# EAGLE library part MC3362 (library fm_radio)
Low-Power Narrow Band FM Receiver
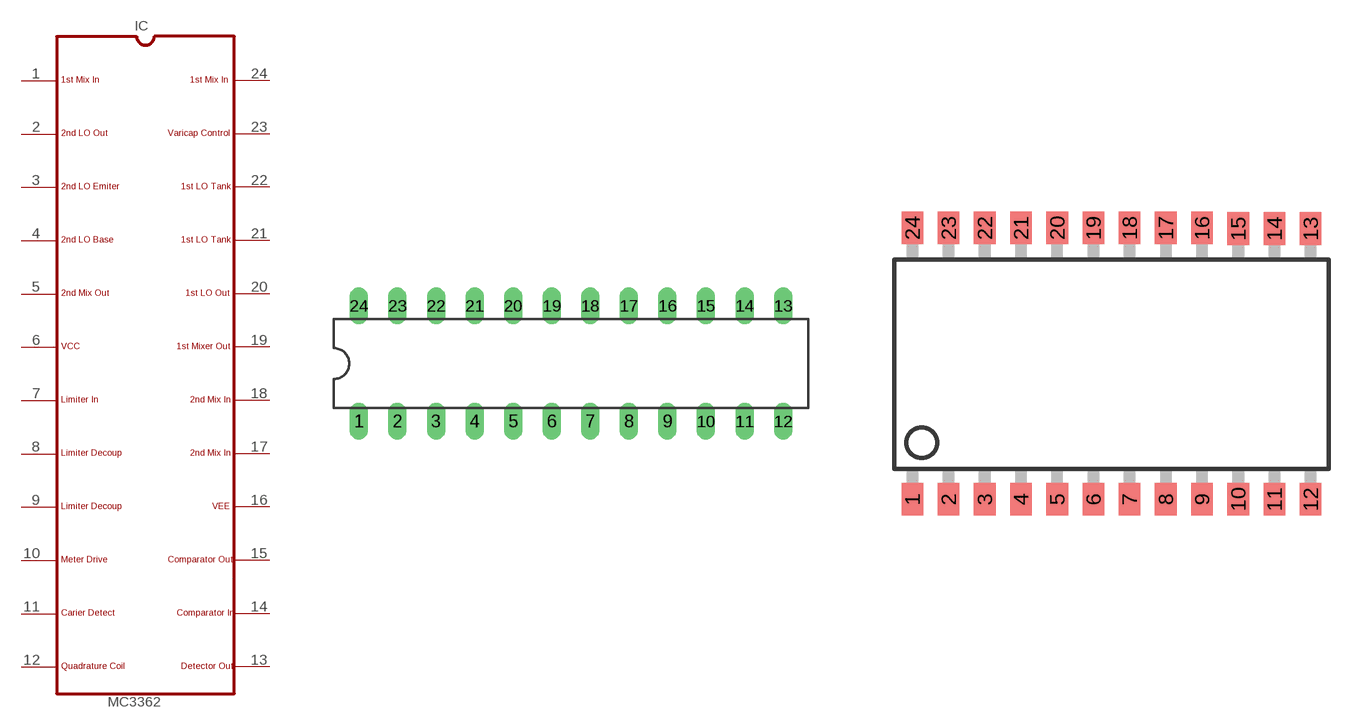
[diagram p0: symbol with the pads of DIL24; footprints DIL24, SO24L]

Designator prefix IC

## MC3362P  [DIL24]
1  1  pas
2  2  pas
3  3  pas
4  4  pas
5  5  pas
6  6  pwr
7  7  pas
8  8  pas
9  9  pas
10  10  pas
11  11  pas
12  12  pas
13  13  pas
14  14  pas
15  15  pas
16  16  pwr
17  17  pas
18  18  pas
19  19  pas
20  20  pas
21  21  pas
22  22  pas
23  23  pas
24  24  pas

## MC3362DW  [SO24L]
1  1  pas
2  2  pas
3  3  pas
4  4  pas
5  5  pas
6  6  pwr
7  7  pas
8  8  pas
9  9  pas
10  10  pas
11  21  pas
12  22  pas
13  24  pas
14  23  pas
15  11  pas
16  12  pas
17  13  pas
18  14  pas
19  15  pas
20  16  pwr
21  17  pas
22  18  pas
23  19  pas
24  20  pas

## Footprint DIL24 (pad centres in mm)
drill 0.7 long: 1 -13.97,-3.81; 2 -11.43,-3.81; 3 -8.89,-3.81; 4 -6.35,-3.81; 5 -3.81,-3.81; 6 -1.27,-3.81; 7 1.27,-3.81; 8 3.81,-3.81; 9 6.35,-3.81; 10 8.89,-3.81; 11 11.43,-3.81; 12 13.97,-3.81; 13 13.97,3.81; 14 11.43,3.81; 15 8.89,3.81; 16 6.35,3.81; 17 3.81,3.81; 18 1.27,3.81; 19 -1.27,3.81; 20 -3.81,3.81; 21 -6.35,3.81; 22 -8.89,3.81; 23 -11.43,3.81; 24 -13.97,3.81

## Footprint SO24L (pad centres in mm)
smd 0.762 x 1.143: 1 -6.985,-4.813; 2 -5.715,-4.813; 3 -4.445,-4.813; 4 -3.175,-4.813; 5 -1.905,-4.813; 6 -0.635,-4.813; 7 0.635,-4.813; 8 1.905,-4.813; 9 3.175,-4.813; 10 4.445,-4.813; 11 5.715,-4.813; 12 6.985,-4.813; 13 6.985,4.686; 14 5.715,4.686; 15 4.445,4.686; 16 3.175,4.712; 17 1.905,4.712; 18 0.635,4.712; 19 -0.635,4.712; 20 -1.905,4.712; 21 -3.175,4.712; 22 -4.445,4.712; 23 -5.715,4.712; 24 -6.985,4.712